# EAGLE library part RASPBERRYPI_B (library Chillmon)
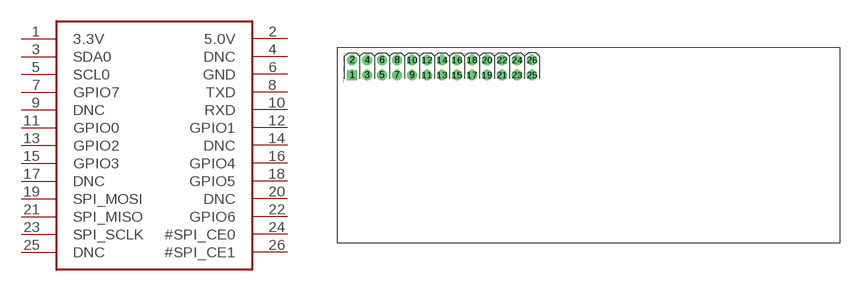
[diagram p0: symbol with the pads of RASBERRYPI_SHIELD; footprint RASBERRYPI_SHIELD]

Designator prefix -

## RASPBERRYPI_BB  [RASBERRYPI_SHIELD]
1  3.3V  sup
2  5.0V  sup
3  SDA0
4  DNC  nc
5  SCL0  out
6  GND  sup
7  GPIO7
8  TXD  out
9  DNC  nc
10  RXD  in
11  GPIO0
12  GPIO1
13  GPIO2
14  DNC  nc
15  GPIO3
16  GPIO4
17  DNC  nc
18  GPIO5
19  SPI_MOSI  out
20  DNC  nc
21  SPI_MISO  in
22  GPIO6
23  SPI_SCLK  out
24  #SPI_CE0  out
25  DNC  nc
26  #SPI_CE1  out

## Footprint RASBERRYPI_SHIELD (pad centres in mm)
drill 1 pad 1.676 square: 1 -15.24,93.218
drill 1 pad 1.676: 2 -15.24,95.758; 3 -12.7,93.218; 4 -12.7,95.758; 5 -10.16,93.218; 6 -10.16,95.758; 7 -7.62,93.218; 8 -7.62,95.758; 9 -5.08,93.218; 10 -5.08,95.758; 11 -2.54,93.218; 12 -2.54,95.758; 13 0,93.218; 14 0,95.758; 15 2.54,93.218; 16 2.54,95.758; 17 5.08,93.218; 18 5.08,95.758; 19 7.62,93.218; 20 7.62,95.758; 21 10.16,93.218; 22 10.16,95.758; 23 12.7,93.218; 24 12.7,95.758; 25 15.24,93.218; 26 15.24,95.758